# Altium schematic symbol library Oktay97-OT_Library.SchLib: 513 symbols (part 4 of 4)
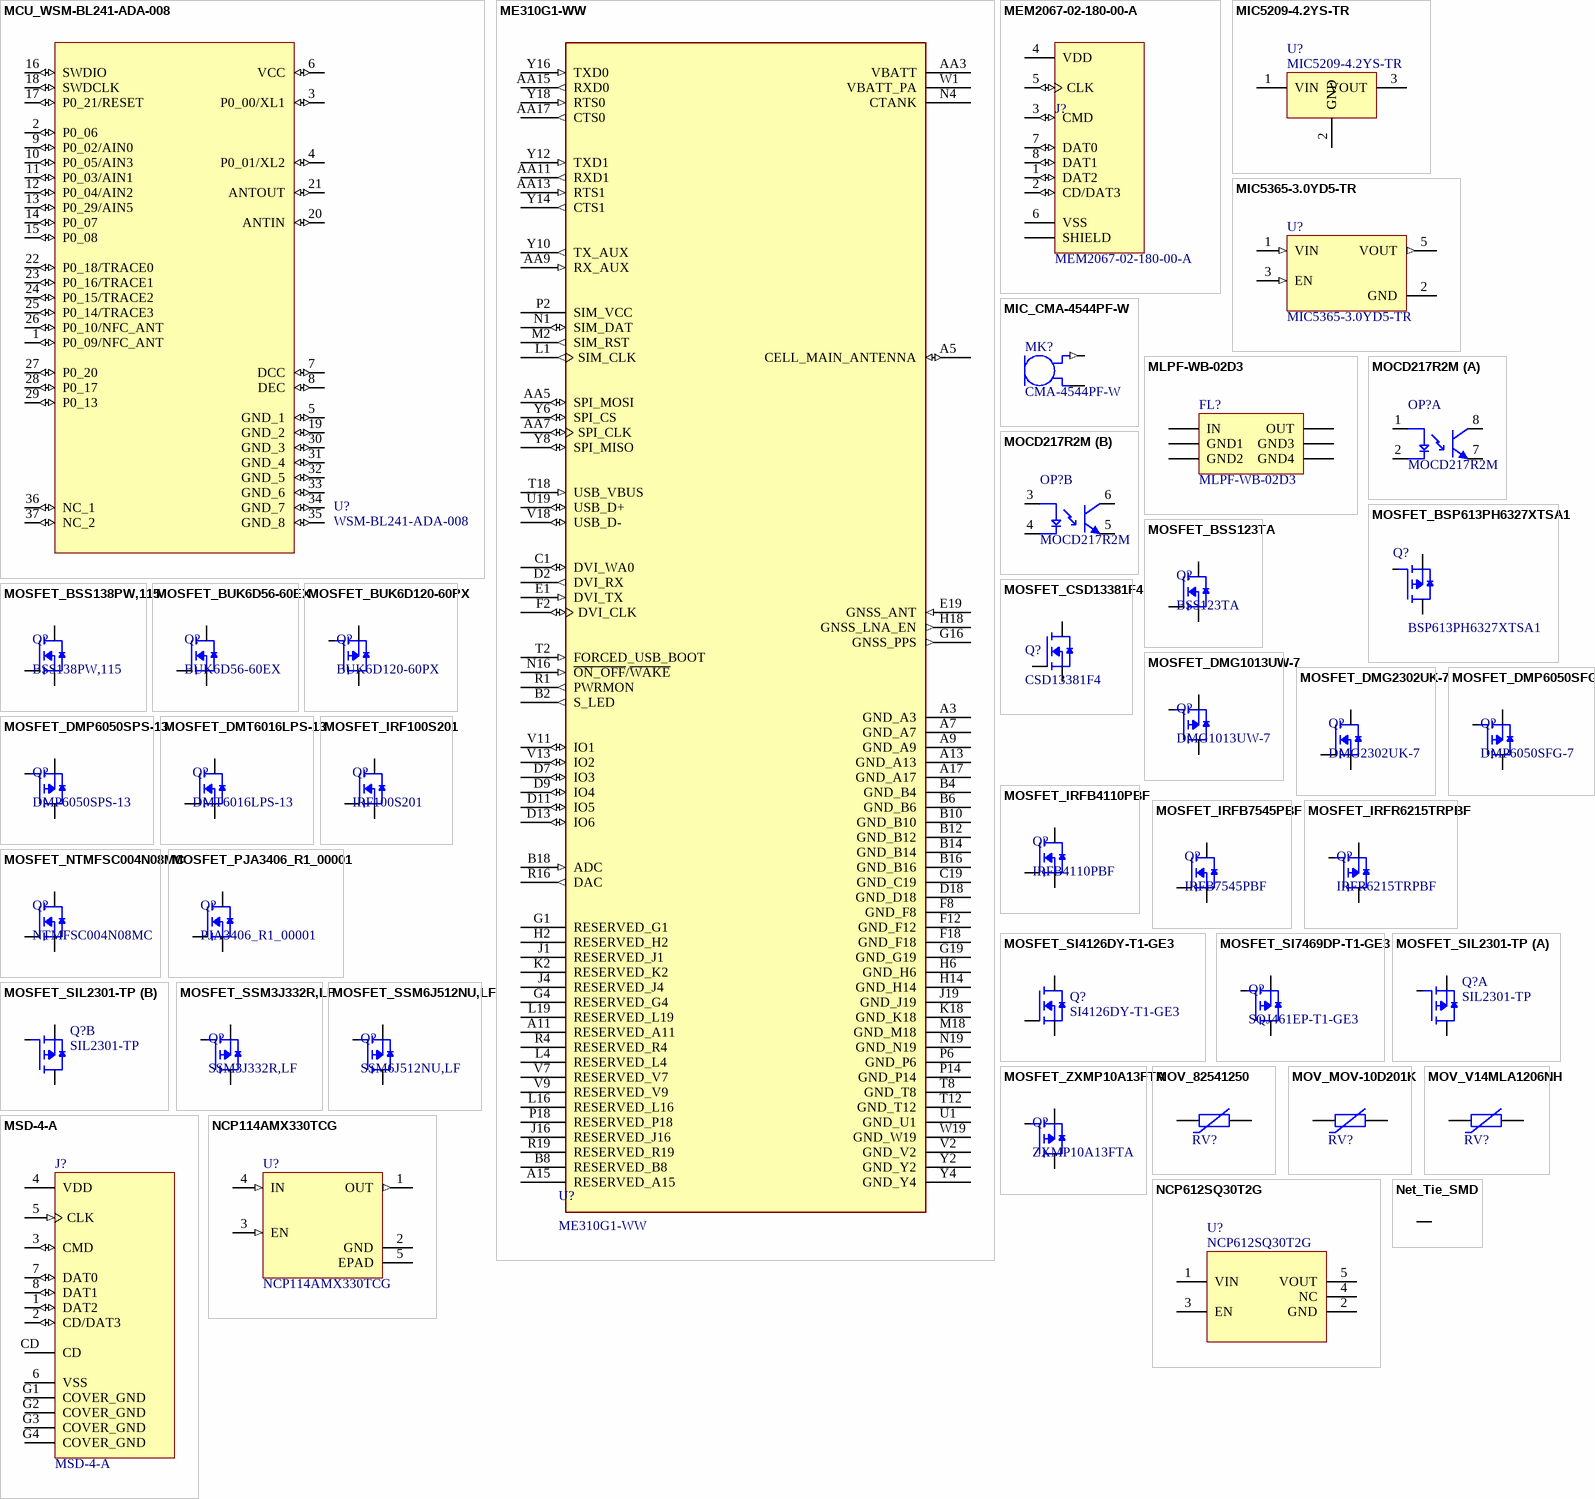
[diagram p20: symbols MCU_WSM-BL241-ADA-008 to Net_Tie_SMD]

## NCP612SQ30T2G
designator U?
IC REG LINEAR 3V 100MA SC88A; Manufacturer: ON Semiconductor; Manufacturer Part Number: NCP612SQ30T2G; LCSC Part: C463355
footprint SC-70-5 (Footprint not found)
pins: 1 VIN, 2 GND, 3 EN, 4 NC, 5 VOUT

## Net_Tie_SMD
designator NET?, comment Net Tie  (value not drawn)  (net tie)
footprint NET_TIE_SMD
pins: 1, 2

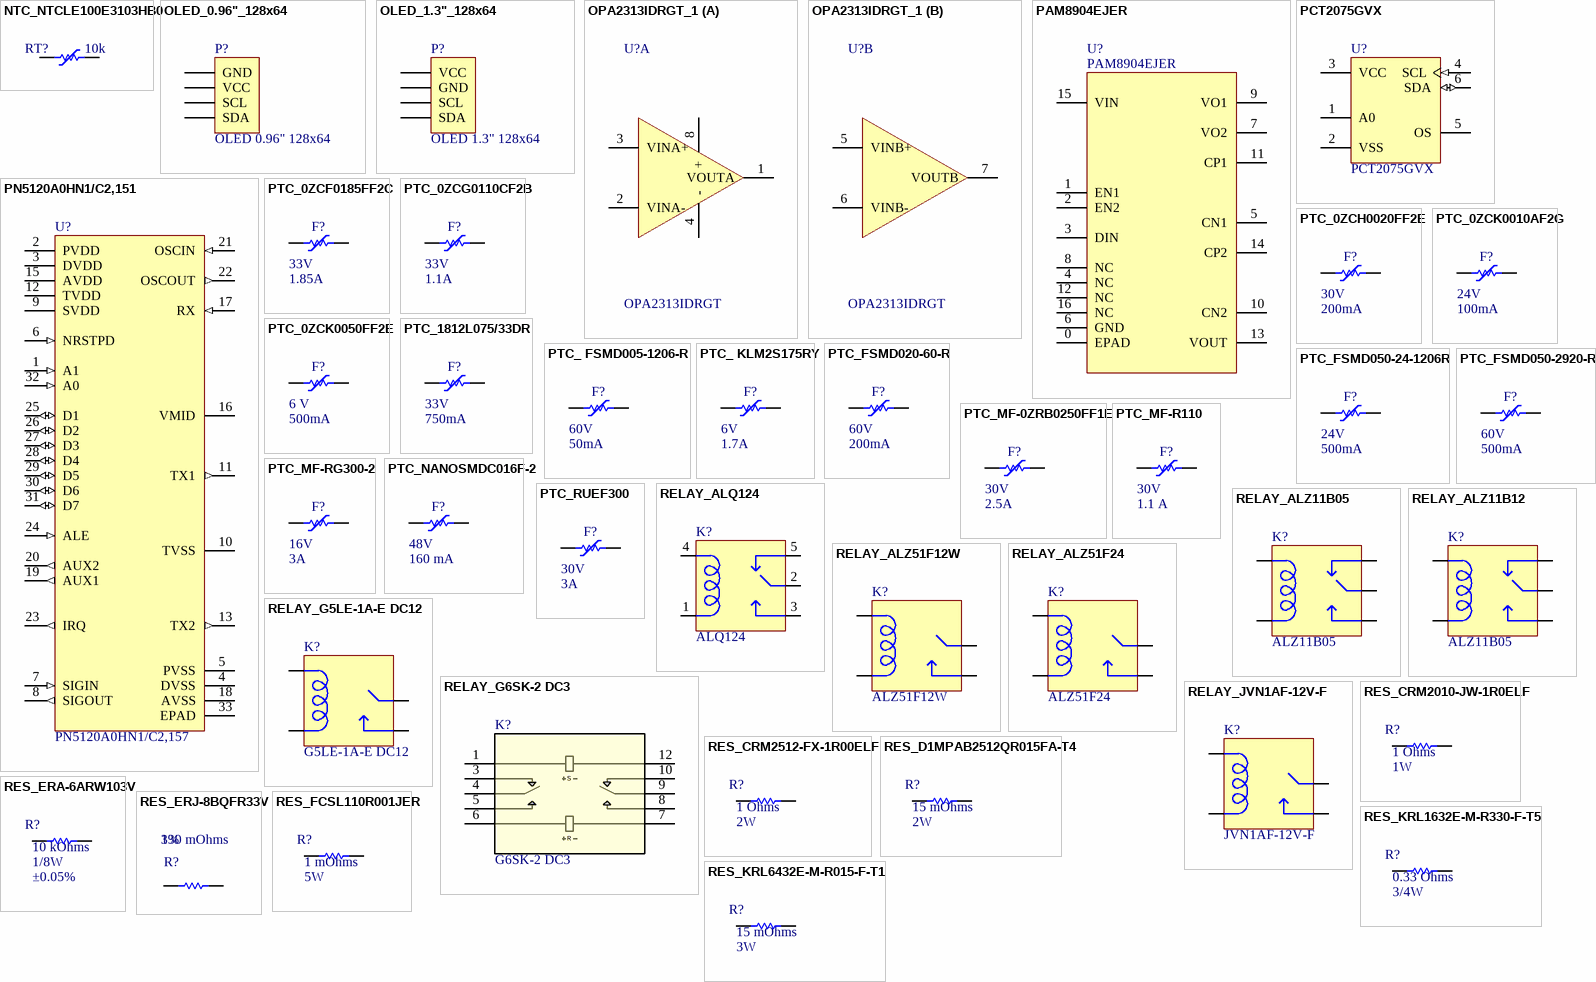
[diagram p14: symbols NTC_NTCLE100E3103HB0 to RES_KRL6432E-M-R015-F-T1]

## NTC_NTCLE100E3103HB0
designator RT?, comment Resistance in Ohms @ 25°C: 10k  (hidden comment: NTCLE100E3103HB0)
THERMISTOR NTC 10KOHM 3977K BEAD; Manufacturer: Vishay Beyschlag/Draloric/BC Components; Manufacturer Part Number: NTCLE100E3103HB0; Datasheet: https://www.vishay.com/docs/29049/ntcle100.pdf
footprint NTCLE100E3103HB0
pins: 1, 2

## OLED_0.96"_128x64
designator P?, comment OLED 0.96" 128x64
OLED 128x64 0.96" I2C; Manufacturer Part Number: 128x64 0.96 inç OLED Grafik Ekran 4 Pin IS-I2C; Manufacturer: DirencNet; Link: https://www.direnc.net/128x64-oled-4pin-is-spi-lcd-display
footprint Header 1x4 male (2.54mm)
footprint OLED_0.96"_128x64
pins: 1 GND, 2 VCC, 3 SCL, 4 SDA

## OLED_1.3"_128x64
designator P?, comment OLED 1.3" 128x64
OLED 128x64 1.3" I2C; Manufacturer Part Number: 128x64 1.3 inç OLED Grafik Ekran 4 Pin IS-I2C; Manufacturer: DirencNet; Link: https://www.direnc.net/128x64-1-3-inch-oled-grafik-ekran-i2c
footprint Header 1x4 male (2.54mm)
footprint OLED_1.3"_128x64
pins: 1 VCC, 2 GND, 3 SCL, 4 SDA

## OPA2313IDRGT_1
designator U?, comment OPA2313IDRGT
IC OPAMP GP 2 CIRCUIT 8SON; Manufacturer: Texas Instruments; Manufacturer Part Number: OPA2313IDRGT
footprint 8-WFDFN (3x3) Exposed Pad (8-SON (3x3))
part A pins: 1 VOUTA, 2 VINA-, 3 VINA+, 4 -, 8 +
part B pins: 5 VINB+, 6 VINB-, 7 VOUTB

## PAM8904EJER
designator U?
IC PIEZO SOUNDER DRVR 16UQFN; Manufacturer: Diodes; Manufacturer Part Number: PAM8904EJER; LCSC Part: C510549
footprint 16-UFQFN Exposed Pad
pins: 0 EPAD, 1 EN1, 2 EN2, 3 DIN, 4 NC, 5 CN1, 6 GND, 7 VO2, 8 NC, 9 VO1, 10 CN2, 11 CP1, 12 NC, 13 VOUT, 14 CP2, 15 VIN, 16 NC

## PCT2075GVX
designator U?
SENSOR DIGITAL -55C-125C 6TSOP; Manufacturer: NXP USA Inc.; Manufacturer Part Number: PCT2075GVX
footprint 6-TSOP (SC-74, SOT-457)
pins: 1 A0, 2 VSS (power), 3 VCC (power), 4 SCL (in), 5 OS, 6 SDA (io)

## PN5120A0HN1/C2,151
designator U?, comment PN5120A0HN1/C2,157
IC RFID RDR/TRAN 13.56MZ 32HVQFN; Manufacturer: NXP USA Inc.; Manufacturer Part Number: PN5120A0HN1/C2,157
footprint 32-VFQFN Exposed Pad (32-HVQFN (5x5))
pins: 1 A1 (in), 2 PVDD (power), 3 DVDD (power), 4 DVSS, 5 PVSS, 6 NRSTPD (in), 7 SIGIN (in), 8 SIGOUT (out), 9 SVDD (power), 10 TVSS (power), 11 TX1 (out), 12 TVDD (power), 13 TX2 (out), 14 TVSS_2 (power) hidden, 15 AVDD (power), 16 VMID (power), 17 RX (in), 18 AVSS (power), 19 AUX1 (out), 20 AUX2 (out), 21 OSCIN (in), 22 OSCOUT (out), 23 IRQ (out), 24 ALE (in), 25 D1 (io), 26 D2 (io), 27 D3 (io), 28 D4 (io), 29 D5 (io), 30 D6 (io), 31 D7 (io), 32 A0 (in), 33 EPAD

## PTC_0ZCF0185FF2C
designator F?, comment Voltage - Max: 33V  Current - Hold (Ih) (Max): 1.85A  (hidden comment: 0ZCF0185FF2C)
PTC RESET FUSE 33V 1.85A 2920; Manufacturer: Bel Fuse Inc.; Manufacturer Part Number: 0ZCF0185FF2C; Datasheet: https://www.belfuse.com/resources/datasheets/circuitprotection/ds-cp-0zcf-series.pdf; LCSC Part: C70139
footprint PTC_2920 (2920 SMT PPTC)
pins: 1, 2

## PTC_0ZCG0110CF2B
designator F?, comment Voltage - Max: 33V  Current - Hold (Ih) (Max): 1.1A  (hidden comment: 0ZCG0110CF2B)
PTC RESET FUSE 33V 1.1A 1812; Manufacturer: Bel Fuse Inc.; Manufacturer Part Number: 0ZCG0110CF2B
footprint PTC_1812 (0.179" L x 0.128" W (4.55mm x 3.24mm))
pins: 1, 2

## PTC_0ZCH0020FF2E
designator F?, comment Voltage - Max: 30V  Current - Hold (Ih) (Max): 200mA  (hidden comment: 0ZCH0020FF2E)
PTC RESET FUSE 30V 200MA 1210; Manufacturer: Bel Fuse Inc.; Manufacturer Part Number: 0ZCH0020FF2E; Datasheet: https://www.belfuse.com/resources/datasheets/circuitprotection/ds-cp-0zch-series.pdf
footprint PTC_1210 (0.127" L x 0.102" W (3.22mm x 2.58mm))
pins: 1, 2

## PTC_0ZCK0010AF2G
designator F?, comment Voltage - Max: 24V  Current - Hold (Ih) (Max): 100mA  (hidden comment: 0ZCK0010AF2G)
PTC RESET FUSE 24V 100MA 0805; Manufacturer: Bel Fuse Inc.; Manufacturer Part Number: 0ZCK0010AF2G; LCSC Part: C6355700
footprint PTC_0805
pins: 1, 2

## PTC_0ZCK0050FF2E
designator F?, comment Voltage - Max: 6 V  Current - Hold (Ih) (Max): 500mA  (hidden comment: 0ZCK0050FF2E)
PTC RESET FUSE 6V 500MA 0805; Manufacturer: Bel Fuse Inc.; Manufacturer Part Number: 0ZCK0050FF2E; Datasheet: https://www.belfuse.com/resources/datasheets/circuitprotection/ds-cp-0zck-series.pdf
footprint PTC_0805
pins: 1, 2

## PTC_1812L075/33DR
designator F?, comment Voltage - Max: 33V  Current - Hold (Ih) (Max): 750mA  (hidden comment: 1812L075/33DR)
PTC RESET FUSE 33V 750MA 1812; Manufacturer: Bel Fuse Inc.; Manufacturer Part Number: 1812L075/33DR; LCSC Part: C151170
footprint PTC_1812 (0.179" L x 0.128" W (4.55mm x 3.24mm))
pins: 1, 2

## PTC_ FSMD005-1206-R
designator F?, comment Voltage - Max: 60V  Current - Hold (Ih) (Max): 50mA  (hidden comment: FSMD005-1206-R)
PTC RESET FUSE 60V 50MA 1206; Manufacturer: Bel Fuse Inc.; Manufacturer Part Number: FSMD005-1206-R
footprint PTC_1206 (0.126" L x 0.063" W (3.20mm x 1.60mm))
pins: 1, 2

## PTC_ KLM2S175RY
designator F?, comment Voltage - Max: 6V  Current - Hold (Ih) (Max): 1.7A  (hidden comment: KLM2S175RY)
PTC RESET FUSE 6V 1.7A 0805; Manufacturer: Bel Fuse Inc.; Manufacturer Part Number: KLM2S175RY
footprint PTC_0805
pins: 1, 2

## PTC_FSMD020-60-R
designator F?, comment Voltage - Max: 60V  Current - Hold (Ih) (Max): 200mA  (hidden comment: FSMD020-60-R)
PTC RESET FUSE 60V 200MA 1812; Manufacturer: Fuzetec; Manufacturer Part Number: FSMD020-60-R
footprint PTC_1812 (0.179" L x 0.128" W (4.55mm x 3.24mm))
pins: 1, 2

## PTC_FSMD050-24-1206R
designator F?, comment Voltage - Max: 24V  Current - Hold (Ih) (Max): 500mA  (hidden comment: FSMD050-24-1206R)
PTC RESET FUSE 24V 500MA 1206; Manufacturer: Bel Fuse Inc.; Manufacturer Part Number: FSMD050-24-1206R
footprint PTC_1206 (0.126" L x 0.063" W (3.20mm x 1.60mm))
pins: 1, 2

## PTC_FSMD050-2920-R
designator F?, comment Voltage - Max: 60V  Current - Hold (Ih) (Max): 500mA  (hidden comment: FSMD050-2920-R)
PTC RESET FUSE 60V 500MA 2920; Manufacturer: Fuzetec; Manufacturer Part Number: FSMD050-2920-R
footprint PTC_2920 (2920 SMT PPTC)
pins: 1, 2

## PTC_MF-0ZRB0250FF1E
designator F?, comment Voltage - Max: 30V  Current - Hold (Ih) (Max): 2.5A  (hidden comment: 0ZRB0250FF1E)
PTC RESET FUSE 30V 2.5A RADIAL; Manufacturer: Bel Fuse Inc.; Manufacturer Part Number: 0ZRB0250FF1E; LCSC Part: C3761262
footprint PTC_DISC110 (Tyco_RKEF110)
pins: 1, 2

## PTC_MF-R110
designator F?, comment Voltage - Max: 30V  Current - Hold (Ih) (Max): 1.1 A  (hidden comment: MF-R110)
PTC RESET FUSE 30V 1.1A RADIAL; Manufacturer: Bourns Inc.; Manufacturer Part Number: MF-R110; LCSC Part: C208481
footprint PTC_DISC110 (Tyco_RKEF110)
pins: 1, 2

## PTC_MF-RG300-2
designator F?, comment Voltage - Max: 16V  Current - Hold (Ih) (Max): 3A  (hidden comment: FRG300-16F)
PTC RESET FUSE 16V 3A RADIAL; Manufacturer: RFE/Fuzetec; Manufacturer Part Number: FRG300-16F; LCSC Part: C2687068
footprint PTC_7.1x3.0x5.1 (0.280" L x 0.118" W (7.10mm x 3.00mm))
pins: 1, 2

## PTC_NANOSMDC016F-2
designator F?, comment Voltage - Max: 48V  Current - Hold (Ih) (Max): 160 mA  (hidden comment: NANOSMDC016F-2)
PTC RESET FUSE 48V 160MA 1206; Manufacturer: Littelfuse Inc.; Manufacturer Part Number: NANOSMDC016F-2; Datasheet: https://www.belfuse.com/resources/datasheets/circuitprotection/ds-cp-0zcf-series.pdf
footprint PTC_1206 (0.126" L x 0.063" W (3.20mm x 1.60mm))
pins: 1, 2

## PTC_RUEF300
designator F?, comment Voltage - Max: 30V  Current - Hold (Ih) (Max): 3A  (hidden comment: RUEF300)
PTC RESET FUSE 30V 3A RADIAL; Manufacturer: Littelfuse Inc.; Manufacturer Part Number: RUEF300; LCSC Part: C315961
footprint PTC_DISC160 (LittleFuse_RKEF160)
pins: 1, 2

## RELAY_ALQ124
designator K?, comment ALQ124
RELAY GEN PURPOSE SPDT 10A 24V; Manufacturer: Panasonic Electric Works; Coil Voltage: 24VDC; Contact Form: SPDT (1 Form C); Switching Voltage: 250VAC - Max; Manufacturer Part Number: ALQ124; Contact Rating (Current): 10A
footprint RELAY_ALQ105
pins: 1 C2, 2 C, 3 NO, 4 C1, 5 NC

## RELAY_ALZ11B05
designator K?, comment ALZ11B05
RELAY GEN PURPOSE SPDT 16A 5V; Manufacturer: Panasonic Electric Works; Coil Voltage: 5VDC; Contact Form: SPDT (1 Form C); Switching Voltage: 440VAC - Max; Manufacturer Part Number: ALZ11B05; Contact Rating (Current): 16A
footprint RELAY_ALZ_C
pins: 1 C1, 2 NC, 3 C, 4 NO, 5 NO, 6 C, 7 NC, 8 C2

## RELAY_ALZ11B12
designator K?, comment ALZ11B05
RELAY GEN PURPOSE SPDT 16A 12V; Manufacturer: Panasonic Electric Works; Coil Voltage: 12VDC; Contact Form: SPDT (1 Form C); Switching Voltage: 440VAC - Max; Manufacturer Part Number: ALZ11B05; Contact Rating (Current): 16A
footprint RELAY_ALZ_C
pins: 1 NO, 2 C, 3 NC, 4 C1, 5 C2, 6 NC, 7 C, 8 NO

## RELAY_ALZ51F12W
designator K?, comment ALZ51F12W
RELAY GEN PURPOSE SPST 16A 12V; Manufacturer: Panasonic Electric Works; Coil Voltage: 12VDC; Contact Form: SPST-NO (1 Form A); Switching Voltage: 440VAC - Max; Manufacturer Part Number: ALZ51F12W; Contact Rating (Current): 16A
footprint RELAY_ALZ_A
pins: 1 C, 2 NO, 3 C1, 4 C2, 5 NO, 6 C

## RELAY_ALZ51F24
designator K?, comment ALZ51F24
RELAY GEN PURPOSE SPST 16A 24V; Manufacturer: Panasonic Electric Works; Coil Voltage: 24VDC; Contact Form: SPST-NO (1 Form A); Switching Voltage: 440VAC - Max; Manufacturer Part Number: ALZ51F24; Contact Rating (Current): 16A
footprint RELAY_ALZ_A
pins: 1 C, 2 NO, 3 C1, 4 C2, 5 NO, 6 C

## RELAY_G5LE-1A-E DC12
designator K?, comment G5LE-1A-E DC12
RELAY GEN PURPOSE SPST 16A 12V; Manufacturer: Omron Electronics Inc-EMC Div; Coil Voltage: 12VDC; Contact Form: SPST-NO (1 Form A); Manufacturer Part Number: G5LE-1A-E DC12; Contact Rating (Current): 16A
footprint Relay_G5LE
pins: 1 COM, 2 C, 3 NO, 5 C

## RELAY_G6SK-2 DC3
designator K?, comment G6SK-2 DC3
RELAY TELECOM DPDT 2A 3V; Manufacturer: Omron Electronics Inc-EMC Div; LCSC Part: C2896754; Manufacturer Part Number: G6SK-2 DC3
footprint RELAY_G6SK-2_OMR
pins: 1, 3, 4, 5, 6, 7, 8, 9, 10, 12
text: S; R

## RELAY_JVN1AF-12V-F
designator K?, comment JVN1AF-12V-F
RELAY GEN PURPOSE SPST 16A 12V; Manufacturer: Panasonic Electric Works; Coil Voltage: 12VDC; Contact Form: SPST-NO (1 Form A); Manufacturer Part Number: JVN1AF-12V-F; Contact Rating (Current): 16A
footprint Relay_JV_N (Footprint not found)
pins: 1 C, 2 C, 3 COM, 4 NO

## RES_CRM2010-JW-1R0ELF
designator R?, comment Power (Watts): 1W  Resistance: 1 Ohms  (hidden comment: CRM2010-JW-1R0ELF)
RES SMD 1 OHM 5% 1W 2010; Manufacturer: Bourns Inc.; Manufacturer Part Number: CRM2010-JW-1R0ELF; Datasheet: https://connect.kemet.com:7667/gateway/IntelliData-ComponentDocumentation/1.0/download/datasheet/R76PD1220SE00K; Tolerance: ±5%; LCSC Part: C161983
footprint RES_2010 (0.197" L x 0.098" W (5.00mm x 2.50mm))
pins: 1, 2

## RES_CRM2512-FX-1R00ELF
designator R?, comment Power (Watts): 2W  Resistance: 1 Ohms  (hidden comment: CRM2512-FX-1R00ELF)
RES SMD 1 OHM 1% 2W 2512; Manufacturer: Bourns Inc.; Manufacturer Part Number: CRM2512-FX-1R00ELF; Tolerance: ±1%
footprint RES_2512 (0.250" L x 0.120" W (6.35mm x 3.05mm))
pins: 1, 2

## RES_D1MPAB2512QR015FA-T4
designator R?, comment Power (Watts): 2W  Resistance: 15 mOhms  (hidden comment: D1MPAB2512QR015FA-T4)
RES 0.015 OHM 1% 2W 2512; Manufacturer: Thin Film Technology Corp.; Manufacturer Part Number: D1MPAB2512QR015FA-T4; Tolerance: ±1%; LCSC Part: C493475
footprint RES_2512 (0.250" L x 0.120" W (6.35mm x 3.05mm))
pins: 1, 2

## RES_ERA-6ARW103V
designator R?, comment Tolerance: ±0.05%  Power (Watts): 1/8W  Resistance: 10 kOhms  (hidden comment: ERA-6ARW103V)
RES SMD 10K OHM 0.05% 1/8W 0805; Manufacturer: Panasonic Electronic Components; Manufacturer Part Number: ERA-6ARW103V
footprint RES_0805
pins: 1, 2

## RES_ERJ-8BQFR33V
designator R?, comment Resistance: 330 mOhms  Tolerance: 1%  (hidden comment: ERJ-8BQFR33V)
RES 0.33 OHM 1% 1/2W 1206; Manufacturer: Panasonic; Temperature Coefficient: 250ppm/°C; Power Rating: 330mW; Max Power Dissipation: 500mW; Supplier 1: Avnet; Manufacturer Part Number: ERJ-8BQFR33V; Stock 1: 0; Pricing 1: 5000=0.0467, 10000=0.0458, 20000=0.0448, 30000=0.0437, 40000=0.0428 (USD); Mount: Surface Mount; Case/Package: 1206; Number of Pins: 2; Contact Plating: Tin; Case Code (Imperial): 1206; Case Code (Metric): 3216; Min Operating Temperature: -55°C; Max Operating Temperature: 125°C; Resistor Type: Thick Film,Low-Ohm-Resistor; Package Quantity: 5000; Packaging: Tape and Reel; Series: ERJ; Termination: SMD/SMT; Number of Terminations: 2; Features: Automotive AEC-Q200; Technology: THICK FILM; Resistance Tolerance: 1%; Length: 3.2mm; Width: 1.6mm; Height: 0.6mm; Depth: 1.6mm; Ratings: AEC-Q200; Radiation Hardening: No; Reach SVHC Compliant: No; RoHS Compliant: Yes; ComponentLink1URL: https://datasheet.ciiva.com/11818/0900766b80eefa12-11818652.pdf?src-supplier=Rs; ComponentLink1Description: https://datasheet.ciiva.com/11818/0900766b80eefa12-11818652.pdf?src-supplier=Rs; ComponentLink2URL: https://datasheet.ciiva.com/48516/erj-eng-tds-48516634.pdf?src-supplier=Distrelec; ComponentLink2Description: https://datasheet.ciiva.com/48516/erj-eng-tds-48516634.pdf?src-supplier=Distrelec; ComponentLink3URL: https://datasheet.ciiva.com/6064/391509-6064714.pdf?src-supplier=Farnell; ComponentLink3Description: https://datasheet.ciiva.com/6064/391509-6064714.pdf?src-supplier=Farnell; ComponentLink4URL: https://datasheet.ciiva.com/7710/391509-7710826.pdf?src-supplier=Element14; ComponentLink4Description: https://datasheet.ciiva.com/7710/391509-7710826.pdf?src-supplier=Element14; ComponentLink5URL: https://datasheet.ciiva.com/6064/391509-6064716.pdf?src-supplier=Farnell; ComponentLink5Description: https://datasheet.ciiva.com/6064/391509-6064716.pdf?src-supplier=Farnell; ComponentLink6URL: https://datasheet.ciiva.com/7710/391509-7710825.pdf?src-supplier=Element14; ComponentLink6Description: https://datasheet.ciiva.com/7710/391509-7710825.pdf?src-supplier=Element14; Supplier Part Number 1: ERJ-8BQFR33V
footprint RES_1206 (Chip Resistor; Body 3.2 x 1.6 mm (LxW typ))
pins: 1, 2

## RES_FCSL110R001JER
designator R?, comment Power (Watts): 5W  Resistance: 1 mOhms  (hidden comment: FCSL110R001JER)
RES 0.001 OHM 5W 4320 WIDE; Manufacturer: Ohmite; Tolerance: ±1%; Manufacturer Part Number: FCSL110R001JER
footprint RES_4320_W (0.197" L x 0.433" W (5.00mm x 11.00mm))
pins: 1, 2

## RES_KRL1632E-M-R330-F-T5
designator R?, comment Power (Watts): 3/4W  Resistance: 0.33 Ohms  (hidden comment: KRL1632E-M-R330-F-T5)
RES 0.33 OHM 1% 3/4W 1206; Manufacturer: Susumu; Manufacturer Part Number: KRL1632E-M-R330-F-T5; Tolerance: ±1%
footprint RES_1206 (Chip Resistor; Body 3.2 x 1.6 mm (LxW typ))
pins: 1, 2

## RES_KRL6432E-M-R015-F-T1
designator R?, comment Power (Watts): 3W  Resistance: 15 mOhms  (hidden comment: KRL6432E-M-R015-F-T1)
RES 0.015 OHM 3W 2512 WIDE; Manufacturer: Susumu; Tolerance: ±1%; Manufacturer Part Number: KRL6432E-M-R015-F-T1; Datasheet: https://www.susumu.co.jp/common/pdf/n_catalog_partition19_en.pdf
footprint RES_2512_W (0.122" L x 0.248" W (3.10mm x 6.30mm))
pins: 1, 2

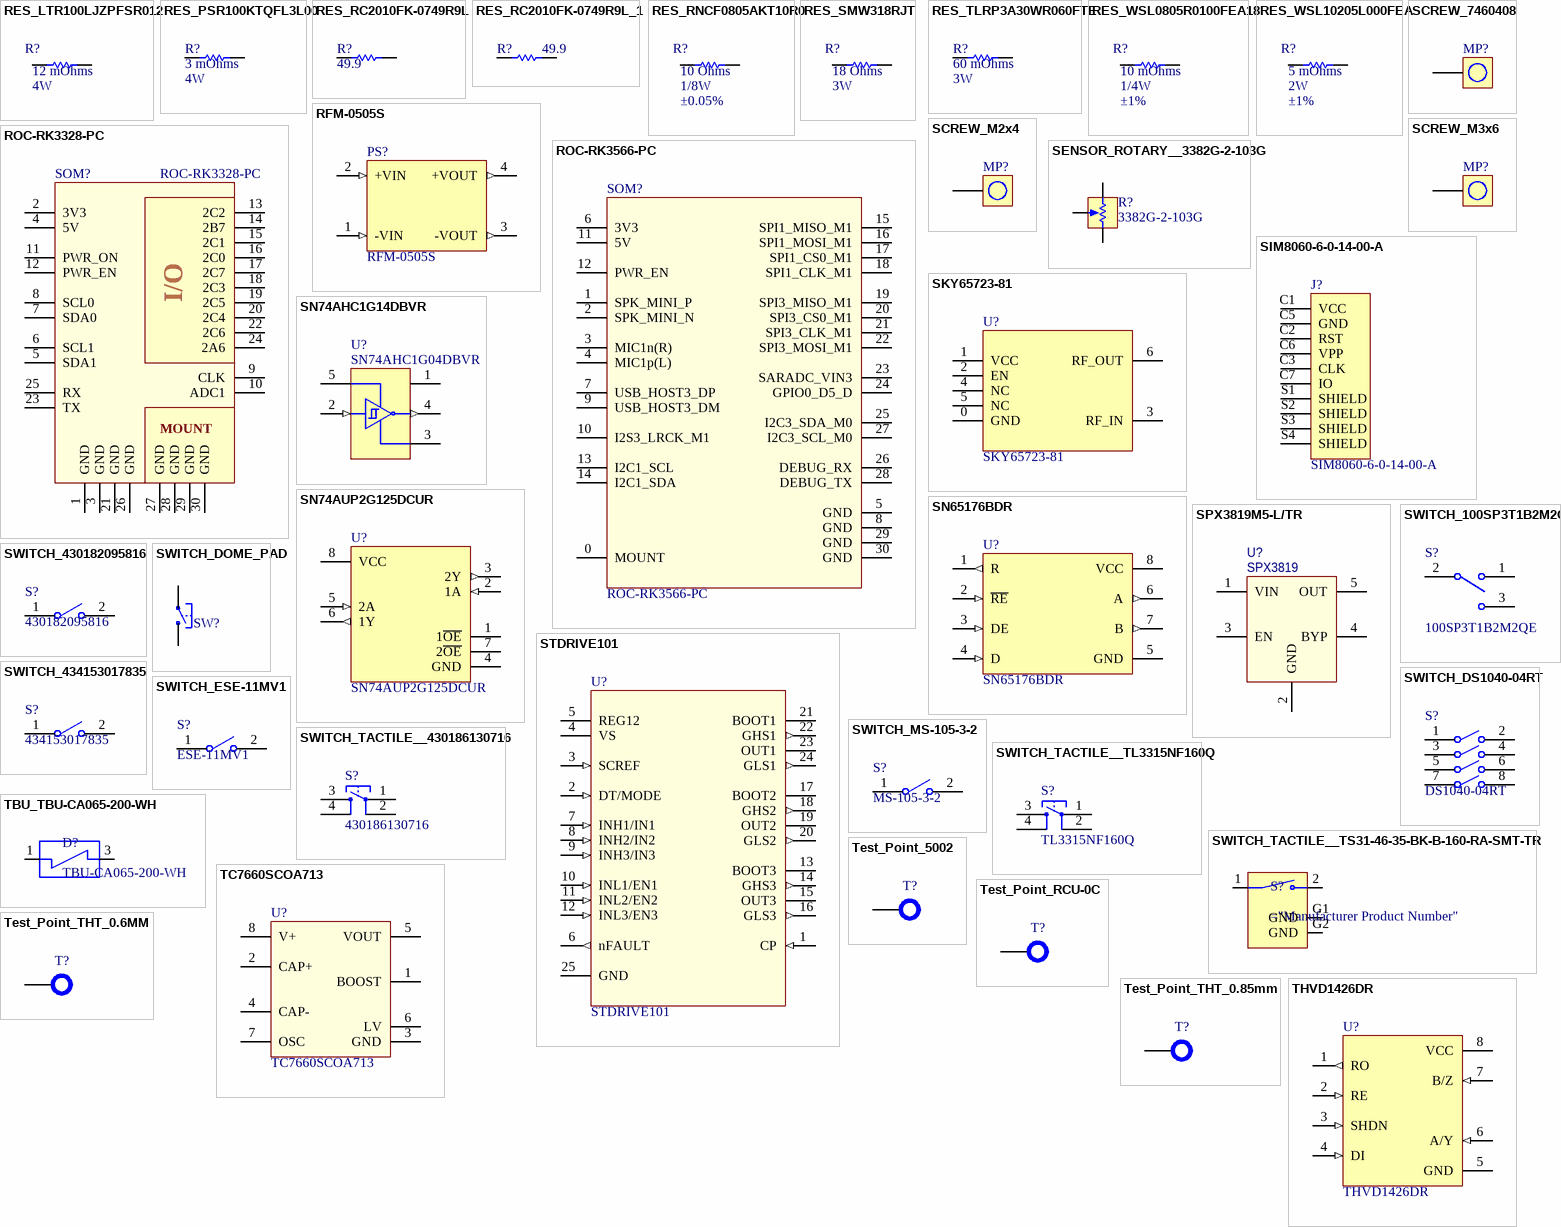
[diagram p15: symbols RES_LTR100LJZPFSR012 to THVD1426DR]

## RES_LTR100LJZPFSR012
designator R?, comment Power (Watts): 4W  Resistance: 12 mOhms  (hidden comment: LTR100LJZPFSR012)
RES 0.012 OHM 4W 2512 WIDE; Manufacturer: Rohm Semiconductor; Tolerance: ±1%; Manufacturer Part Number: LTR100LJZPFSR012
footprint RES_2512_W (0.122" L x 0.248" W (3.10mm x 6.30mm))
pins: 1, 2

## RES_PSR100KTQFL3L00
designator R?, comment Power (Watts): 4W  Resistance: 3 mOhms  (hidden comment: PSR100KTQFL3L00)
RES 0.003 OHM 1% 3W 2512; Manufacturer: Rohm Semiconductor; Manufacturer Part Number: PSR100KTQFL3L00; Datasheet: https://fscdn.rohm.com/en/products/databook/datasheet/passive/resistor/chip_resistor/psr-e.pdf; Tolerance: ±1%
footprint RES_2512 (0.250" L x 0.120" W (6.35mm x 3.05mm))
pins: 1, 2

## RES_RC2010FK-0749R9L
designator R?, comment Resistance: 49.9  (hidden comment: RC2010FK-0749R9L)
RES 49.9 OHM 1% 3/4W 2010; Manufacturer: YAGEO; Power (Watts): 0.75W, 3/4W; Manufacturer Part Number: RC2010FK-0749R9L; Tolerance: ±1%; LCSC Part: C326716
footprint RES_2010 (0.197" L x 0.098" W (5.00mm x 2.50mm))
pins: 1, 2

## RES_RC2010FK-0749R9L_1
designator R?, comment Resistance: 49.9  (hidden comment: RC2010FK-0749R9L)
RES 49.9 OHM 1% 3/4W 2010; Manufacturer: YAGEO; Power (Watts): 0.75W, 3/4W; Manufacturer Part Number: RC2010FK-0749R9L; Tolerance: ±1%; LCSC Part: C326716
footprint RES_2010 (0.197" L x 0.098" W (5.00mm x 2.50mm))
pins: 1, 2

## RES_RNCF0805AKT10R0
designator R?, comment Tolerance: ±0.05%  Power (Watts): 1/8W  Resistance: 10 Ohms  (hidden comment: RNCF0805AKT10R0)
RES SMD 10 OHM 0.05% 1/8W 0805; Manufacturer: Stackpole Electronics Inc; Manufacturer Part Number: RNCF0805AKT10R0
footprint RES_0805
pins: 1, 2

## RES_SMW318RJT
designator R?, comment Power (Watts): 3W  Resistance: 18 Ohms  (hidden comment: SMW318RJT)
RES SMD 18 OHM 5% 3W 4122; Manufacturer: TE Connectivity Passive Product; Manufacturer Part Number: SMW318RJT; Tolerance: ±5%
footprint RES_4122 (0.413" L x 0.217" W (10.50mm x 5.50mm))
pins: 1, 2

## RES_TLRP3A30WR060FTE
designator R?, comment Power (Watts): 3W  Resistance: 60 mOhms  (hidden comment: TLRP3A30WR060FTE)
RES 0.06 OHM 1% 3W 2512; Manufacturer: TE Connectivity Passive Product; Manufacturer Part Number: TLRP3A30WR060FTE; Tolerance: ±1%
footprint RES_2512 (0.250" L x 0.120" W (6.35mm x 3.05mm))
pins: 1, 2

## RES_WSL0805R0100FEA18
designator R?, comment Tolerance: ±1%  Power (Watts): 1/4W  Resistance: 10 mOhms  (hidden comment: WSL0805R0100FEA18)
RES 0.01 OHM 1% 1/4W 0805; Manufacturer: Vishay Dale; Manufacturer Part Number: WSL0805R0100FEA18
footprint RES_0805
pins: 1, 2

## RES_WSL10205L000FEA
designator R?, comment Tolerance: ±1%  Power (Watts): 2W  Resistance: 5 mOhms  (hidden comment: WSL10205L000FEA)
RES 0.005 OHM 1% 2W 2010; Manufacturer: Vishay Dale; Manufacturer Part Number: WSL10205L000FEA; Datasheet: https://www.vishay.com/docs/30183/wslwide.pdf
footprint RES_2010_W (0.200" L x 0.100" W (5.08mm x 2.54mm))
pins: 1, 2

## RFM-0505S
designator PS?
DC DC CONVERTER 5V 1W; Manufacturer: Recom Power; Manufacturer Part Number: RFM-0505S; Datasheet: https://recom-power.com/pdf/Econoline/RFM.pdf
footprint RFM-0505S (0.45" L x 0.24" W x 0.39" H (11.5mm x 6.0mm x 10.0mm))
pins: 1 -VIN (in), 2 +VIN (in), 3 -VOUT (out), 4 +VOUT (out)

## ROC-RK3328-PC
designator SOM?
Quad-core 64-bit Mini PC; Manufacturer: Firefly; Manufacturer Part Number: ROC-RK3328-PC; Datasheet: https://download.t-firefly.com/产品规格文档/开源主板/ROC-RK3328-PC_Quad-core%2064-bit%20Mini%20PC_Specification.pdf?v=1688453152
footprint ROC-RK3328-PC
pins: 1 GND, 2 3V3, 3 GND, 4 5V, 5 SDA1, 6 SCL1, 7 SDA0, 8 SCL0, 9 CLK, 10 ADC1, 11 PWR_ON, 12 PWR_EN, 13 2C2, 14 2B7, 15 2C1, 16 2C0, 17 2C7, 18 2C3, 19 2C5, 20 2C4, 21 GND, 22 2C6, 23 TX, 24 2A6, 25 RX, 26 GND, 27 GND, 28 GND, 29 GND, 30 GND
text: I/O; MOUNT

## ROC-RK3566-PC
designator SOM?
Quad-core 64-bit Mini PC; Manufacturer: Firefly; Manufacturer Part Number: ROC-RK3566-PC; Datasheet: https://download.t-firefly.com/%E4%BA%A7%E5%93%81%E8%A7%84%E6%A0%BC%E6%96%87%E6%A1%A3/%E5%BC%80%E6%BA%90%E4%B8%BB%E6%9D%BF/ROC-RK3566-PC%20Specification.pdf
footprint ROC-RK3566-PC
pins: 0 MOUNT, 1 SPK_MINI_P, 2 SPK_MINI_N, 3 MIC1n(R), 4 MIC1p(L), 5 GND, 6 3V3, 7 USB_HOST3_DP, 8 GND, 9 USB_HOST3_DM, 10 I2S3_LRCK_M1, 11 5V, 12 PWR_EN, 13 I2C1_SCL, 14 I2C1_SDA, 15 SPI1_MISO_M1, 16 SPI1_MOSI_M1, 17 SPI1_CS0_M1, 18 SPI1_CLK_M1, 19 SPI3_MISO_M1, 20 SPI3_CS0_M1, 21 SPI3_CLK_M1, 22 SPI3_MOSI_M1, 23 SARADC_VIN3, 24 GPIO0_D5_D, 25 I2C3_SDA_M0, 26 DEBUG_RX, 27 I2C3_SCL_M0, 28 DEBUG_TX, 29 GND, 30 GND

## SCREW_7460408
designator MP?, comment 7460408  (value not drawn)
TERM REDCUBE M5 12PIN PCB; Manufacturer: Würth Elektronik; Manufacturer Part Number: 7460408
footprint 7460408_chemical surface (M5, thr 6mm)
pins: 1

## SCREW_M2x4
designator MP?, comment RM2X8MM 2701  (value not drawn)
MACH SCREW PAN HEAD PHILLIPS M2; Manufacturer: APM Hexseal; Manufacturer Part Number: RM2X8MM 2701
footprint SCREW_M2X4
pins: 1

## SCREW_M3x6
designator MP?, comment RM3X6MM 2701  (value not drawn)
MACH SCREW PAN HEAD PHILLIPS M3; Manufacturer: APM Hexseal; Manufacturer Part Number: RM3X6MM 2701
footprint SCREW_M3X6
pins: 1

## SENSOR_ROTARY__3382G-2-103G
designator R?, comment 3382G-2-103G
SENSOR ROTARY 330DEG SMD; Manufacturer: Bourns; Manufacturer Part Number: 3382G-2-103G; LCSC Part: C2153636
footprint SENSOR_ROTARY__3382G-2
pins: 1 TOP, 2 TAP, 3 BOT

## SIM8060-6-0-14-00-A
designator J?
SIM NANO HINGED, 6P, 1.40MM PROF; Manufacturer: GCT; Manufacturer Part Number: SIM8060-6-0-14-00-A
footprint GCT_SIM8060-6-0-14-00-A
pins: C1 VCC, C2 RST, C3 CLK, C5 GND, C6 VPP, C7 IO, S1 SHIELD, S2 SHIELD, S3 SHIELD, S4 SHIELD

## SKY65723-81
designator U?
IC AMP BDS 1.559-1.606GHZ 6MCM; Manufacturer: Skyworks Solutions Inc.; Manufacturer Part Number: SKY65723-81; LCSC Part: C2654196
footprint 6-DFN Exposed Pad (6-MCM (1.7x2.3))
pins: 0 GND, 1 VCC, 2 EN, 3 RF_IN, 4 NC, 5 NC, 6 RF_OUT

## SN74AHC1G14DBVR
designator U?, comment SN74AHC1G04DBVR
IC INVERTER 1CH 1-INP SOT23-5; Manufacturer: Texas Instruments; Manufacturer Part Number: SN74AHC1G04DBVR; LCSC Part: C7465
footprint SOT-23-5 (SC-74A, SOT-753)
pins: 1 NC, 2 A (in), 3 GND (power), 4 Y (out), 5 VCC (power)

## SN74AUP2G125DCUR
designator U?
IC BUFFER NON-INVERT 3.6V 8VSSOP; Manufacturer: Texas Instruments; Manufacturer Part Number: SN74AUP2G125DCUR; LCSC Part: C2862074
footprint 8-VSSOP (8-VFSOP (0.091", 2.30mm Width))
pins: 1 1~{OE} (power), 2 1A (in), 3 2Y (out), 4 GND (power), 5 2A (in), 6 1Y (out), 7 2~{OE} (power), 8 VCC (power)

## SN65176BDR
designator U?
IC TRANSCEIVER HALF 1/1 8SOIC; Manufacturer: Texas Instruments; Manufacturer Part Number: SN65176BDR
footprint SOIC-8 (0.154", 3.90mm Width)
pins: 1 R (out), 2 ~{RE} (in), 3 DE (in), 4 D (in), 5 GND (power), 6 A (out), 7 B (out), 8 VCC (power)

## SPX3819M5-L/TR
designator U?, comment SPX3819
IC REG LIN POS ADJ 500MA SOT23-5; Manufacturer Part Number: SPX3819M5-L/TR; Manufacturer: MaxLinear, Inc.; LCSC Part: C9056
footprint SOT-23-5 (SC-74A, SOT-753)
pins: 1 VIN, 2 GND, 3 EN, 4 BYP, 5 OUT

## STDRIVE101
designator U?
IC HALF BRIDGE DRIVER 24VFQFPN; Manufacturer: STMicroelectronics; Manufacturer Part Number: STDRIVE101; LCSC Part: C2969847
footprint 24-VFQFN Exposed Pad (24-QFN (4x4))
pins: 1 CP (in), 2 DT/MODE (in), 3 SCREF (in), 4 VS (power), 5 REG12 (power), 6 nFAULT (out), 7 INH1/IN1 (in), 8 INH2/IN2 (in), 9 INH3/IN3 (in), 10 INL1/EN1 (in), 11 INL2/EN2 (in), 12 INL3/EN3 (in), 13 BOOT3 (power), 14 GHS3 (out), 15 OUT3 (power), 16 GLS3 (out), 17 BOOT2 (power), 18 GHS2 (out), 19 OUT2 (power), 20 GLS2 (out), 21 BOOT1 (power), 22 GHS1 (out), 23 OUT1 (power), 24 GLS1 (out), 25 GND (power)

## SWITCH_100SP3T1B2M2QE
designator S?, comment 100SP3T1B2M2QE
SWITCH TOGGLE SPDT 5A 120V; Manufacturer: E-Switch; Manufacturer Part Number: 100SP3T1B2M2QE
footprint SWITCH_100SP3T1B2M2QE
pins: 1, 2, 3

## SWITCH_430182095816
designator S?, comment 430182095816
SWITCH TACTILE SPST-NO 0.05A 12V; Manufacturer: Würth Elektronik; Manufacturer Part Number: 430182095816; LCSC Part: C7185035
footprint WS-TASV_L6W6H9.5_4301x20958x6 (SMD Tact Switch, body 6x6mm)
pins: 1, 2, 3, 4

## SWITCH_434153017835
designator S?, comment 434153017835
SWITCH TACTILE SPST-NO 0.05A 12V; Manufacturer: Würth Elektronik; Manufacturer Part Number: 434153017835; Datasheet: https://www.we-online.com/katalog/datasheet/434153017835.pdf
footprint WS-TASV_L3.5W2.9H1.7_434153017835 (Tact Switch, SMD, body 3.5x2.9mm)
pins: 1, 2, 3, 4

## SWITCH_DOME_PAD
designator SW?  (value not drawn)  (no BOM)
Dome switch pad
footprint SWITCH_DOME_PAD__4X3
pins: 1, 2

## SWITCH_DS1040-04RT
designator S?, comment DS1040-04RT
SWITCH SLIDE DIP SPST 100MA 24V; Manufacturer: CONNFLY; Manufacturer Part Number: DS1040-04RT
footprint SWITCH_DS1040-04RT
pins: 1, 2, 3, 4, 5, 6, 7, 8

## SWITCH_ESE-11MV1
designator S?, comment ESE-11MV1
SWITCH DETECTOR SPST-NO 0.01A 5V; Manufacturer: Panasonic Electronic Components; Manufacturer Part Number: ESE-11MV1
footprint ESE-11MV1
pins: 1, 2

## SWITCH_MS-105-3-2
designator S?, comment MS-105-3-2
MINIATURE REED SENSOR PITCH 12.7; Manufacturer: PIC GmbH; Manufacturer Part Number: MS-105-3-2
footprint MS-105-3-2 (Footprint not found)
pins: 1, 2

## SWITCH_TACTILE__430186130716
designator S?, comment 430186130716
SWITCH TACTILE SPST-NO 0.05A 12V; Manufacturer: Würth Elektronik; Manufacturer Part Number: 430186130716
footprint Tact_THD_430186130716 (6x6mm Tact Switch, THT version)
pins: 1, 2, 3, 4

## SWITCH_TACTILE__TL3315NF160Q
designator S?, comment TL3315NF160Q
SWITCH TACTILE SPST-NO 0.05A 15V; Manufacturer: E-SWITCH; Manufacturer Part Number: TL3315NF160Q; LCSC Part: C2886877
footprint Tact_THD_4.5x4.5__0.55mm
pins: 1, 2, 3, 4

## SWITCH_TACTILE__TS31-46-35-BK-B-160-RA-SMT-TR
designator S?
4.6 X 1.8 MM, 1.2 MM ACTUATOR HE; Manufacturer: Same Sky (Formerly CUI Devices); Manufacturer Part Number: TS31-46-35-BK-B-160-RA-SMT-TR; LCSC Part: Unavailable
footprint SW_TS31-46-35-BK-B-160-RA-SMT-TR (Footprint not found)
pins: 1, 2, G1 GND (power), G2 GND (power)

## TBU_TBU-CA065-200-WH
designator D?, comment TBU-CA065-200-WH
SURGE SUPP TBU 200MA 650VIMP SMD; Manufacturer: Bourns; Manufacturer Part Number: TBU-CA065-200-WH
footprint 3-SMD (3-SMD (6.5x4))
pins: 1 (io), 3 (io)

## TC7660SCOA713
designator U?
IC REG CHARG PUMP INV 20MA 8SOIC; Manufacturer: Microchip Technology; Manufacturer Part Number: TC7660SCOA713; LCSC Part: C625016
footprint SOIC-8 (0.154", 3.90mm Width)
pins: 1 BOOST, 2 CAP+, 3 GND, 4 CAP-, 5 VOUT, 6 LV, 7 OSC, 8 V+

## Test_Point_5002
designator T?, comment 5002  (value not drawn)
PC TEST POINT MINIATURE WHITE; Manufacturer: Keystone Electronics; Manufacturer Part Number: 5002; LCSC Part: C238123
footprint Test_Point_5002 (0.040" (1.02mm))
pins: TP 1

## Test_Point_RCU-0C
designator T?, comment RCU-0C  (value not drawn)
PC TEST POINT NATURAL; Manufacturer: TE Connectivity AMP Connectors; Manufacturer Part Number: RCU-0C
footprint Test_Point_1.60MMx0.80mm (0.063" L x 0.032" W (1.60mm x 0.80mm))
pins: TP 1

## Test_Point_THT_0.6MM
designator T?, comment DNP  (value not drawn)  (no BOM)
TEST POINT 0.6MM; Manufacturer Part Number: DNP; Manufacturer: DNP
footprint Test_Point_THT_0.6MM (0.6mm)
pins: TP 1

## Test_Point_THT_0.85mm
designator T?, comment DNP  (value not drawn)  (no BOM)
TEST POINT 0.85MM; Manufacturer Part Number: DNP; Manufacturer: DNP
footprint Test_Point_THT_0.85MM (0.85mm)
pins: TP 1

## THVD1426DR
designator U?
IC TRANSCEIVER HALF 1/1 8SOIC; Manufacturer: Texas Instruments; Manufacturer Part Number: THVD1426DR; LCSC Part: C5215921
footprint SOIC-8 (0.154", 3.90mm Width)
pins: 1 RO (out), 2 RE (in), 3 SHDN (in), 4 DI (in), 5 GND (power), 6 A/Y (in), 7 B/Z (in), 8 VCC (power)

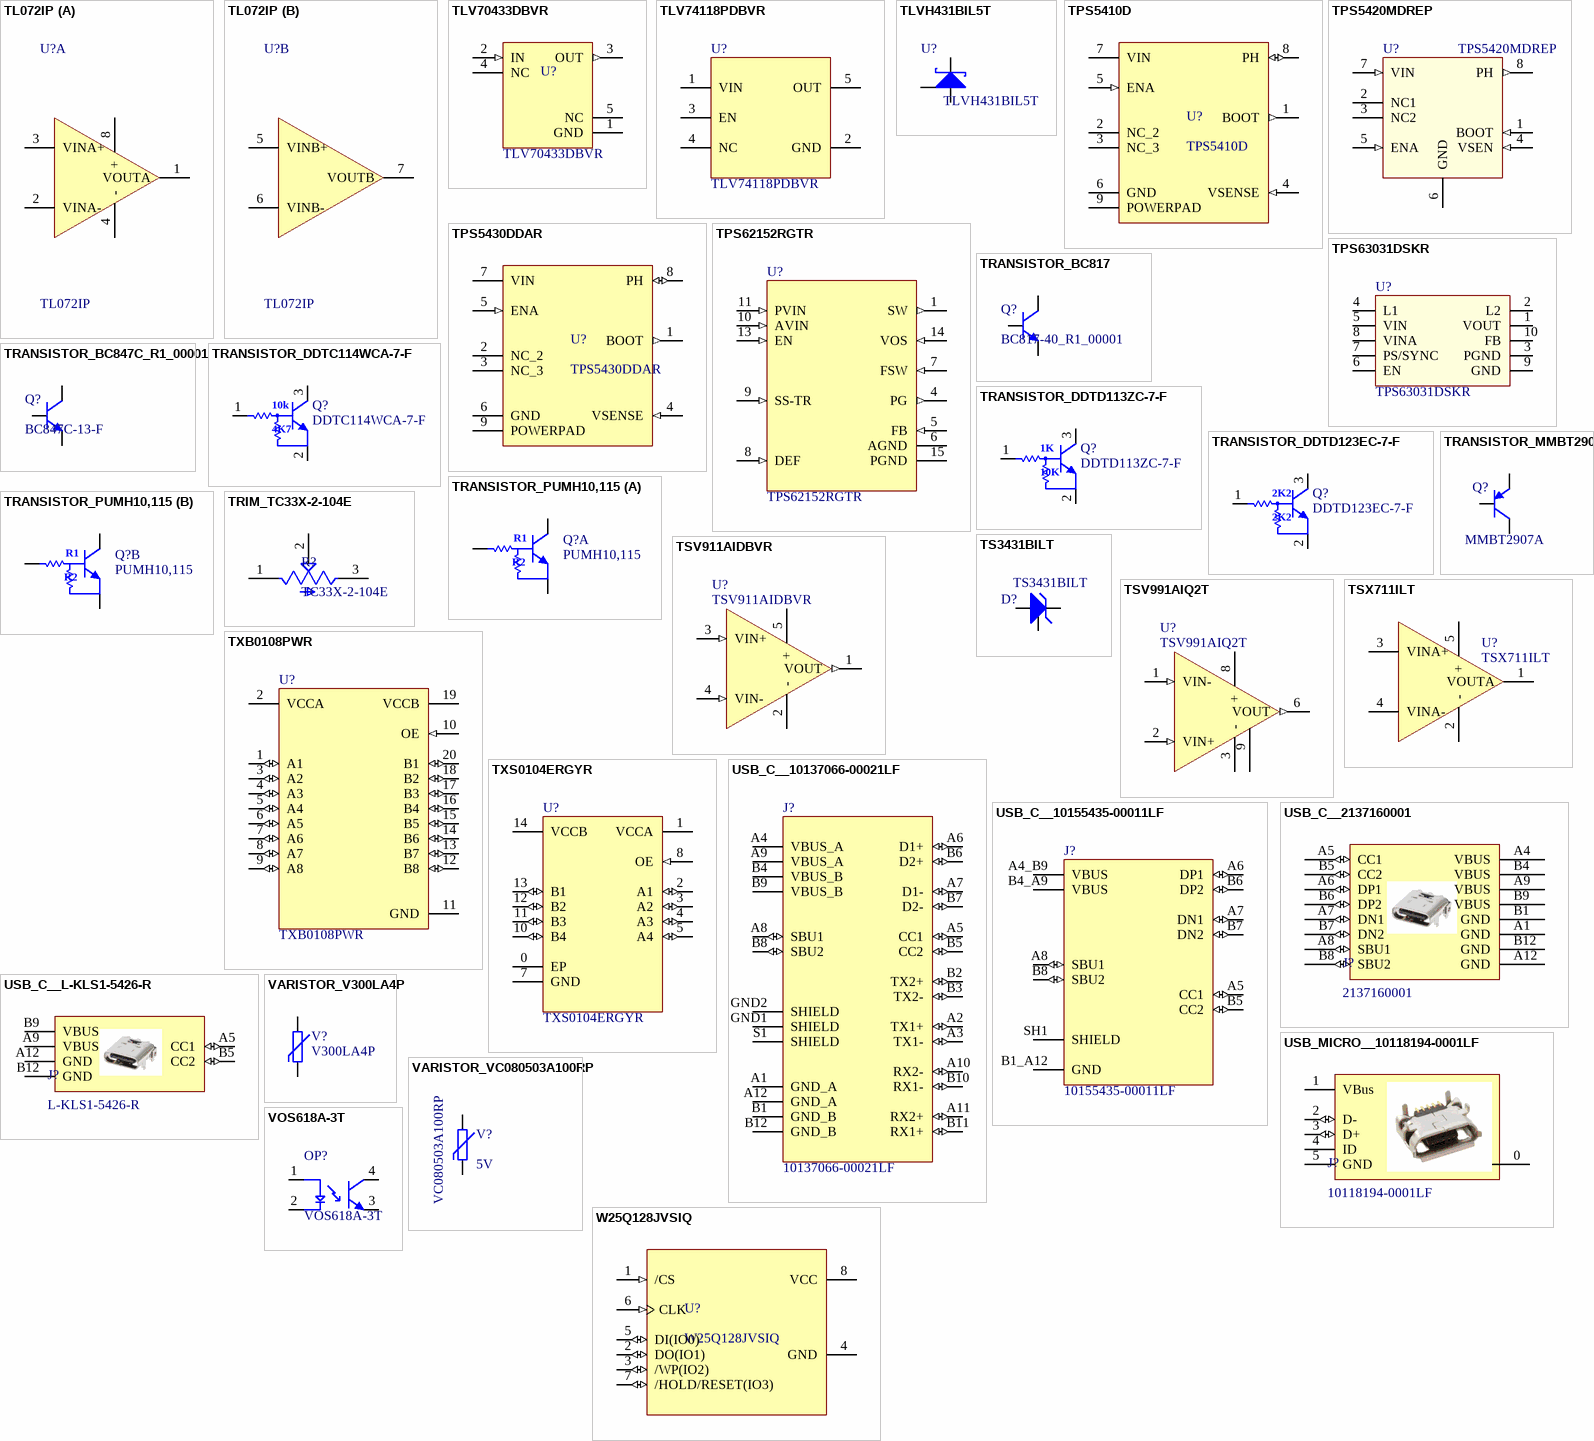
[diagram p16: symbols TL072IP to W25Q128JVSIQ]

## TL072IP
designator U?
IC OPAMP JFET 2 CIRCUIT 8DIP; Manufacturer: Texas Instruments; Manufacturer Part Number: TL072IP
footprint 8-DIP (8-DIP (0.300", 7.62mm))
part A pins: 1 VOUTA, 2 VINA-, 3 VINA+, 4 -, 8 +
part B pins: 5 VINB+, 6 VINB-, 7 VOUTB

## TLV70433DBVR
designator U?
IC REG LINEAR 3.3V 150MA SOT23-5; Manufacturer: Texas Instruments; Manufacturer Part Number: TLV70433DBVR; LCSC Part: C94917
footprint SOT-23-5 (SC-74A, SOT-753)
pins: 1 GND (power), 2 IN (in), 3 OUT (out), 4 NC, 5 NC

## TLV74118PDBVR
designator U?
IC REG LINEAR 1.8V 150MA SOT23-5; Manufacturer: Texas Instruments; Manufacturer Part Number: TLV74118PDBVR; LCSC Part: C469873
footprint SOT-23-5 (SC-74A, SOT-753)
pins: 1 VIN, 2 GND, 3 EN, 4 NC, 5 OUT

## TLVH431BIL5T
designator U?
IC VREF SHUNT ADJ 0.25% SOT23-5; Manufacturer: STMicroelectronics; Manufacturer Part Number: TLVH431BIL5T
footprint SOT-23-5 (SC-74A, SOT-753)
pins: 1 NC hidden, 2 NC hidden, 3 K, 4 A, 5 A

## TPS5410D
designator U?
IC REG BUCK ADJUSTABLE 1A 8SOIC; Manufacturer: Texas Instruments; Manufacturer Part Number: TPS5410D; Datasheet: https://www.ti.com/general/docs/suppproductinfo.tsp?distId=10&gotoUrl=https%3A%2F%2Fwww.ti.com%2Flit%2Fgpn%2Ftps5410
footprint HSOP_8
pins: 1 BOOT (out), 2 NC_2, 3 NC_3, 4 VSENSE (in), 5 ENA (in), 6 GND (power), 7 VIN (power), 8 PH (io), 9 POWERPAD (power)

## TPS5420MDREP
designator U?
IC REG BUCK ADJUSTABLE 2A 8SOIC; Manufacturer: Texas Instruments; Manufacturer Part Number: TPS5420MDREP
footprint SOIC-8 (0.154", 3.90mm Width)
pins: 1 BOOT (in), 2 NC1, 3 NC2, 4 VSEN (in), 5 ENA (in), 6 GND (power), 7 VIN (in), 8 PH (out)

## TPS5430DDAR
designator U?
IC REG BUCK ADJUSTABLE 3A 8SOPWR; Manufacturer: Texas Instruments; Manufacturer Part Number: TPS5430DDAR; Datasheet: https://www.ti.com/lit/ds/symlink/tps5431.pdf?HQS=dis-dk-null-digikeymode-dsf-pf-null-wwe&ts=1684150949048&ref_url=https%253A%252F%252Fwww.ti.com%252Fgeneral%252Fdocs%252Fsuppproductinfo.tsp%253FdistId%253D10%2526gotoUrl%253Dhttps%253A%252F%252Fwww.ti.com%252Flit%252Fgpn%252Ftps5431; LCSC Part: C9864
footprint HSOP_8
pins: 1 BOOT (out), 2 NC_2, 3 NC_3, 4 VSENSE (in), 5 ENA (in), 6 GND (power), 7 VIN (power), 8 PH (io), 9 POWERPAD (power)

## TPS62152RGTR
designator U?
IC REG BUCK 3.3V 1A 16QFN; Manufacturer: Texas Instruments; Manufacturer Part Number: TPS62152RGTR
footprint 16-VFQFN Exposed Pad (Footprint not found)
pins: 1 SW (out), 2 SW (out) hidden to 1, 3 SW (out) hidden to 1, 4 PG (out), 5 FB (in), 6 AGND (power), 7 FSW (in), 8 DEF (in), 9 SS-TR (in), 10 AVIN (in), 11 PVIN (in), 12 PVIN (in) hidden to 11, 13 EN (in), 14 VOS (in), 15 PGND (power), 16 PGND (power) hidden to 15, 17 EP (power) hidden to 15

## TPS63031DSKR
designator U?
IC REG BUCK BST 3.3V 900MA 10SON; Manufacturer: Texas Instruments; Manufacturer Part Number: TPS63031DSKR; LCSC Part: C15516
footprint 10-WFDFN Exposed Pad (Footprint not found)
pins: 1 VOUT, 2 L2, 3 PGND, 4 L1, 5 VIN, 6 EN, 7 PS/SYNC, 8 VINA, 9 GND, 10 FB

## TRANSISTOR_BC817
designator Q?, comment BC817-40_R1_00001
TRANS NPN 45V 0.5A SOT323; Manufacturer: Panjit International Inc.; Current - Collector (Ic) (Max): 500 mA; Manufacturer Part Number: BC817-40_R1_00001; Voltage - Collector Emitter Breakdown (Max): 45 V; LCSC Part: C391420
footprint SOT-323 (SC-70, SOT-323)
pins: 1 B, 2 E, 3 C

## TRANSISTOR_BC847C_R1_00001
designator Q?, comment BC847C-13-F
TRANS NPN 45V 0.1A SOT23; Manufacturer: Panjit International Inc.; Current - Collector (Ic) (Max): 100 mA; Manufacturer Part Number: BC847C-13-F; Voltage - Collector Emitter Breakdown (Max): 45 V; LCSC Part: C526464
footprint SOT-23 (TO-236AB)
pins: 1 B, 2 E, 3 C

## TRANSISTOR_DDTC114WCA-7-F
designator Q?, comment DDTC114WCA-7-F
TRANS PREBIAS NPN 50V SOT23-3; Manufacturer: Diodes Incorporated; Manufacturer Part Number: DDTC114WCA-7-F; LCSC Part: C151436
footprint SOT-23-3 (TO-236-3, SC-59, SOT-23-3)
pins: 1 B, 2 E, 3 C
text: 10k; 4K7

## TRANSISTOR_DDTD113ZC-7-F
designator Q?, comment DDTD113ZC-7-F
TRANS PREBIAS NPN 50V SOT23-3; Manufacturer: Diodes Incorporated; Manufacturer Part Number: DDTD113ZC-7-F; ComponentLink1URL: https://www.diodes.com/assets/Datasheets/ds30384.pdf; ComponentLink1Description: https://www.diodes.com/assets/Datasheets/ds30384.pdf; LCSC Part: C155303
footprint SOT-23-3 (TO-236-3, SC-59, SOT-23-3)
pins: 1 B, 2 E, 3 C
text: 1K; 10K

## TRANSISTOR_DDTD123EC-7-F
designator Q?, comment DDTD123EC-7-F
TRANS PREBIAS NPN 50V SOT23-3; Manufacturer: Diodes Incorporated; Manufacturer Part Number: DDTD123EC-7-F; LCSC Part: C526550
footprint SOT-23-3 (TO-236-3, SC-59, SOT-23-3)
pins: 1 B, 2 E, 3 C
text: 2K2

## TRANSISTOR_MMBT2907A
designator Q?, comment MMBT2907A
TRANS PNP 60V 0.6A SOT-23; Manufacturer: Diotec Semiconductor; Manufacturer Part Number: MMBT2907A; LCSC Part: C462959
footprint SOT-23 (TO-236AB)
pins: 1 B, 2 E, 3 C

## TRANSISTOR_PUMH10,115
designator Q?, comment PUMH10,115
TRANS PREBIAS 2NPN 50V 6TSSOP; Manufacturer: Nexperia USA; Current - Collector (Ic) (Max): 100 mA; Manufacturer Part Number: PUMH10,115; Voltage - Collector Emitter Breakdown (Max): 50V; Datasheet: https://assets.nexperia.com/documents/data-sheet/PEMH10_PUMH10.pdf; LCSC Part: C81379
footprint 6-TSSOP (Footprint not found)
part A pins: 1 E, 2 B, 6 C
part B pins: 3 C, 4 E, 5 B
part A text: R1; R2
part B text: R1; R2

## TRIM_TC33X-2-104E
designator R?, comment TC33X-2-104E
TRIMMER 100KOHM 0.15W J LEAD TOP; Manufacturer: Bourns; LCSC Part: C719186; Manufacturer Part Number: TC33X-2-104E
footprint TRIM_TC33X-2-104E
pins: 1 CCW, 2 W, 3 CW

## TS3431BILT
designator D?
IC VREF SHUNT ADJ 0.5% SOT23-3; Manufacturer: STMicroelectronics; Manufacturer Part Number: TS3431BILT; LCSC Part: C222248
footprint SOT-23-3 (TO-236-3, SC-59, SOT-23-3)
pins: 1 Ref, 2 K, 3 A

## TSV911AIDBVR
designator U?
IC OPAMP GP 1 CIRCUIT SOT23-5; Manufacturer: Texas Instruments; Manufacturer Part Number: TSV911AIDBVR
footprint SOT-23-5 (SC-74A, SOT-753)
pins: 1 VOUT (out), 2 - (power), 3 VIN+ (in), 4 VIN- (in), 5 + (power)

## TSV991AIQ2T
designator U?
IC OPAMP GP 1 CIRCUIT 8DFN; Manufacturer: Texas Instruments; Manufacturer Part Number: TSV991AIQ2T
footprint 8-UFDFN Exposed Pad (8-DFN (2x2))
pins: 1 VIN- (in), 2 VIN+ (in), 3 - (power), 6 VOUT (out), 7 - (power), 8 + (power), 9 EP (power)

## TSX711ILT
designator U?
IC OPAMP GP 1 CIRCUIT SOT23-5; Manufacturer: STMicroelectronics; Manufacturer Part Number: TSX711ILT; LCSC Part: C443987
footprint SOT-23-5 (SC-74A, SOT-753)
pins: 1 VOUTA, 2 -, 3 VINA+, 4 VINA-, 5 +

## TXB0108PWR
designator U?
IC TRANSLATOR BIDIR 20TSSOP; Manufacturer: Texas Instruments; Manufacturer Part Number: TXB0108PWR; LCSC Part: C53406
footprint 20-TSSOP ((0.173", 4.40mm Width))
pins: 1 A1 (io), 2 VCCA (power), 3 A2 (io), 4 A3 (io), 5 A4 (io), 6 A5 (io), 7 A6 (io), 8 A7 (io), 9 A8 (io), 10 OE (in), 11 GND (power), 12 B8 (io), 13 B7 (io), 14 B6 (io), 15 B5 (io), 16 B4 (io), 17 B3 (io), 18 B2 (io), 19 VCCB (power), 20 B1 (io)

## TXS0104ERGYR
designator U?
IC TRANSLTR BIDIRECTIONAL 14VQFN; Manufacturer: TEXAS INSTRUMENTS; Manufacturer Part Number: TXS0104ERGYR; ComponentLink1URL: http://www.tme.eu/en/details/txs0104ergyr/level-translators/texas-instruments/; ComponentLink1Description: http://www.tme.eu/en/details/txs0104ergyr/level-translators/texas-instruments/; LCSC Part: C154926
footprint VQFN_14_EPAD
pins: 0 EP (power), 1 VCCA (power), 2 A1 (io), 3 A2 (io), 4 A3 (io), 5 A4 (io), 7 GND (power), 8 OE (in), 10 B4 (io), 11 B3 (io), 12 B2 (io), 13 B1 (io), 14 VCCB (power)

## USB_C__10137066-00021LF
designator J?, comment 10137066-00021LF
USB 3.1 RECPT CONN; Manufacturer: Amphenol ICC; Manufacturer Part Number: 10137066-00021LF; LCSC Part: C5417178
footprint USB_C__10137066-00021LF (Footprint not found)
pins: A1 GND_A (power), A2 TX1+ (io), A3 TX1- (io), A4 VBUS_A (power), A5 CC1 (io), A6 D1+ (io), A7 D1- (io), A8 SBU1 (io), A9 VBUS_A (power), A10 RX2- (io), A11 RX2+ (io), A12 GND_A (power), B1 GND_B (power), B2 TX2+ (io), B3 TX2- (io), B4 VBUS_B (power), B5 CC2 (io), B6 D2+ (io), B7 D2- (io), B8 SBU2 (io), B9 VBUS_B (power), B10 RX1- (io), B11 RX1+ (io), B12 GND_B (power), GND1 SHIELD, GND2 SHIELD, S1 SHIELD, S2 SHIELD, S3 SHIELD, S4 SHIELD, S5 SHIELD, S6 SHIELD, S7 SHIELD, S8 SHIELD

## USB_C__10155435-00011LF
designator J?, comment 10155435-00011LF
USB TYPE C R/A SMT 16PIN; Manufacturer: Amphenol ICC (FCI); Manufacturer Part Number: 10155435-00011LF
footprint USB_C__10155435-00011LF (Footprint not found)
pins: A1_B12 GND (power), A4_B9 VBUS (power), A5 CC1 (io), A6 DP1 (io), A7 DN1 (io), A8 SBU1 (io), B1_A12 GND (power), B4_A9 VBUS (power), B5 CC2 (io), B6 DP2 (io), B7 DN2 (io), B8 SBU2 (io), SH1 SHIELD, SH2 SHIELD, SH3 SHIELD, SH4 SHIELD

## USB_C__2137160001
designator J?, comment 2137160001
Type C Receptacle DIP 16PIN; Manufacturer: Molex; Supplier 1: RSComponents; Manufacturer Part Number: 2137160001; RoHS: No; Category: Connectors; Stock 1: 6985; Pricing 1: 800=0.58100, 1600=0.55200 (GBP); Supplier Part Number 1: 2153153
footprint USB_C__2137160001 (Footprint not found)
pins: A1 GND (power), A4 VBUS (power), A5 CC1 (io), A6 DP1 (io), A7 DN1 (io), A8 SBU1 (io), A9 VBUS (power), A12 GND (power), B1 GND (power), B4 VBUS (power), B5 CC2 (io), B6 DP2 (io), B7 DN2 (io), B8 SBU2 (io), B9 VBUS (power), B12 GND (power)

## USB_C__L-KLS1-5426-R
designator J?, comment L-KLS1-5426-R
CONN.USB C TYPE 6PIN SMT R/A FEMALE REEL; Manufacturer: KLS ELECTRONIC; Alternative: USB4125-GF-A-0190; Manufacturer Part Number: L-KLS1-5426-R; Category: Connectors
footprint USB_C__L-KLS1-5426-R (Footprint not found)
pins: A5 CC1 (io), A9 VBUS (power), A12 GND (power), B5 CC2 (io), B9 VBUS (power), B12 GND (power)

## USB_MICRO__10118194-0001LF
designator J?, comment 10118194-0001LF
CONN RCPT USB2.0 MICRO B SMD R/A; Manufacturer: Amphenol Communications Solutions; Manufacturer Part Number: 10118194-0001LF; LCSC Part: C132563
footprint AMPHENOL_10118194-0001LF
pins: 0 Shield, 1 VBus (power), 2 D- (io), 3 D+ (io), 4 ID (power), 5 GND (power)

## VARISTOR_V300LA4P
designator V?, comment V300LA4P
VARISTOR 470V 1.2KA DISC 7MM; Manufacturer: Littelfuse; Manufacturer Part Number: V300LA4P; ComponentLink1URL: https://datasheet.ciiva.com/27053/1764141-27053510.pdf?src-supplier=Jameco; ComponentLink1Description: https://datasheet.ciiva.com/27053/1764141-27053510.pdf?src-supplier=Jameco; ComponentLink2URL: https://datasheet.ciiva.com/25604/0900766b81107157-25604609.pdf?src-supplier=Rs; ComponentLink2Description: https://datasheet.ciiva.com/25604/0900766b81107157-25604609.pdf?src-supplier=Rs; ComponentLink3URL: https://datasheet.ciiva.com/8071/482376-8071047.pdf?src-supplier=Element14; ComponentLink3Description: https://datasheet.ciiva.com/8071/482376-8071047.pdf?src-supplier=Element14; ComponentLink4URL: https://datasheet.ciiva.com/4540/littelfuse-mov-la-34212-4540508.pdf?src-supplier=Mouser; ComponentLink4Description: https://datasheet.ciiva.com/4540/littelfuse-mov-la-34212-4540508.pdf?src-supplier=Mouser; ComponentLink5URL: https://datasheet.ciiva.com/365/littelfuse-mov-la-365347.pdf?src-supplier=Digi-Key; ComponentLink5Description: https://datasheet.ciiva.com/365/littelfuse-mov-la-365347.pdf?src-supplier=Digi-Key; ComponentLink6URL: https://datasheet.ciiva.com/16503/la-16503102.pdf?src-supplier=Future+Electronics; ComponentLink6Description: https://datasheet.ciiva.com/16503/la-16503102.pdf?src-supplier=Future+Electronics; LCSC Part: C179065
footprint VARISTOR_V300LA4P (Footprint not found)
pins: 1, 2

## VARISTOR_VC080503A100RP
designator V?, comment VC080503A100RP  Varistor Voltage: 5V
VARISTOR 5V 40A 0805; Manufacturer: Kyocera AVX; Number of Terminals/Pins: 2; Capacitance: 1.4nF; Voltage Rating (AC): 2.3V; Voltage Rating (DC): 3.3V; Number of Circuits: 1; Energy: 0.1J; Clamping Voltage: 12V; Clamping Current: 1A; Voltage Tolerance: 20%; Min Varistor Voltage: 4V; Max Varistor Voltage: 6V; Current Rating: 1mA; Supplier 1: Avnet; Manufacturer Part Number: VC080503A100RP; Stock 1: 0; Pricing 1: 4000=0.2753 (USD); Mount: Surface Mount; Case/Package: 0805; Case Code (Metric): 2012; Case Code (Imperial): 0805; Material: Ceramic; Size Code: 0805; Min Operating Temperature: -55°C; Max Operating Temperature: 125°C; Packaging: Tape and Reel; Max Surge Current: 40A; Package Quantity: 4000; Voltage Rating: 3.3V; Max Output Current: 40A; Max Voltage Rating (AC): 2.3V; Max Voltage Rating (DC): 3.3V; Termination: SMD/SMT; Operating Supply Voltage: 3.3V; Series: TransGuard®; Clamping Voltage-Max: 12V; Length: 2.01mm; Width: 1.25mm; Depth: 1.25mm; Radiation Hardening: No; Lead Free: Lead Free; RoHS Compliant: Yes; ComponentLink1URL: https://datasheet.ciiva.com/26933/getdatasheetpartid-301873-26933655.pdf?src-supplier=Verical; ComponentLink1Description: https://datasheet.ciiva.com/26933/getdatasheetpartid-301873-26933655.pdf?src-supplier=Verical; ComponentLink2URL: https://datasheet.ciiva.com/16202/tguard-16202728.pdf?src-supplier=Future+Electronics; ComponentLink2Description: https://datasheet.ciiva.com/16202/tguard-16202728.pdf?src-supplier=Future+Electronics; ComponentLink3URL: https://datasheet.ciiva.com/369/tguard-369638.pdf?src-supplier=Digi-Key; ComponentLink3Description: https://datasheet.ciiva.com/369/tguard-369638.pdf?src-supplier=Digi-Key; Supplier Part Number 1: VC080503A100RP
footprint VARISTOR-0805
pins: 1, 2

## VOS618A-3T
designator OP?
OPTOISOLATOR 3.75KV TRANS 4-SSOP; Manufacturer: Vishay Semiconductor Opto Division; Manufacturer Part Number: VOS618A-3T; LCSC Part: C17701954
footprint 4-SOIC (Footprint not found)
pins: 1 A, 2 C, 3 ET, 4 CT

## W25Q128JVSIQ
designator U?
IC FLASH 128MBIT SPI/QUAD 8SOIC; Manufacturer: Winbond Electronics; LCSC Part: C571265; Manufacturer Part Number: W25Q128JVSIQ
footprint SOIC-8 (0.154", 3.90mm Width)
pins: 1 /CS (in), 2 DO(IO1) (io), 3 /WP(IO2) (io), 4 GND (power), 5 DI(IO0) (io), 6 CLK (in), 7 /HOLD/RESET(IO3) (io), 8 VCC (power)

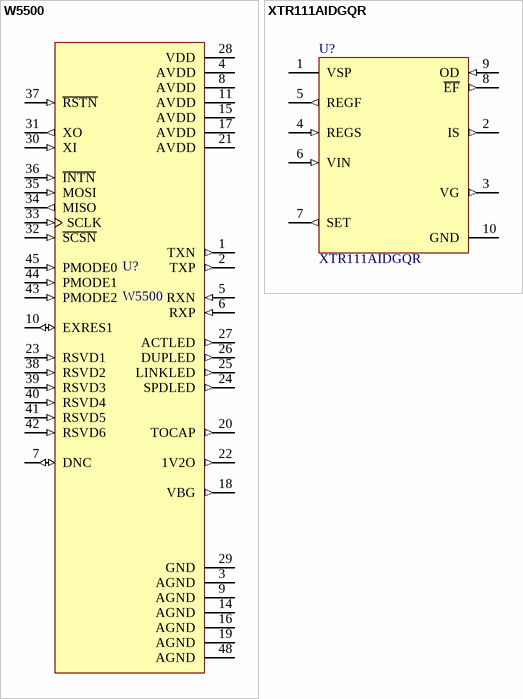
[diagram p17: symbols W5500 to XTR111AIDGQR]

## W5500
designator U?
IC CTLR 3-1 ETH TCP/IP 48LQFP; Manufacturer: WIZnet; Datasheet: https://docs.wiznet.io/img/products/w5500/w5500_ds_v109e.pdf; Manufacturer Part Number: W5500; LCSC Part: C32843
footprint 48-LQFP (48-LQFP (7x7))
pins: 1 TXN (out), 2 TXP (out), 3 AGND (power), 4 AVDD (power), 5 RXN (in), 6 RXP (in), 7 DNC (io), 8 AVDD (power), 9 AGND (power), 10 EXRES1 (io), 11 AVDD (power), 14 AGND (power), 15 AVDD (power), 16 AGND (power), 17 AVDD (power), 18 VBG (out), 19 AGND (power), 20 TOCAP (out), 21 AVDD (power), 22 1V2O (out), 23 RSVD1 (in), 24 SPDLED (out), 25 LINKLED (out), 26 DUPLED (out), 27 ACTLED (out), 28 VDD (power), 29 GND, 30 XI (in), 31 XO (out), 32 ~{SCSN} (in), 33 SCLK (in), 34 MISO (out), 35 MOSI (in), 36 ~{INTN} (in), 37 ~{RSTN} (in), 38 RSVD2 (in), 39 RSVD3 (in), 40 RSVD4 (in), 41 RSVD5 (in), 42 RSVD6 (in), 43 PMODE2 (in), 44 PMODE1 (in), 45 PMODE0 (in), 48 AGND (power)

## XTR111AIDGQR
designator U?
IC PREC VOLT-CURR CONV/TX 10-SON; Manufacturer: Texas Instruments; Manufacturer Part Number: XTR111AIDGQR; LCSC Part: C26350
footprint 10-HVSSOP (10-PowerTFSOP, 10-MSOP (0.118", 3.00mm Width))
pins: 1 VSP (power), 2 IS (out), 3 VG (out), 4 REGS (in), 5 REGF (out), 6 VIN (in), 7 SET (out), 8 ~{EF} (out), 9 OD (in), 10 GND (power), 11 GND (power)